# Altium schematic symbol library chipi.SchLib: 4 symbols
Pins are listed as number, name and electrical type; pins without a type are passive.

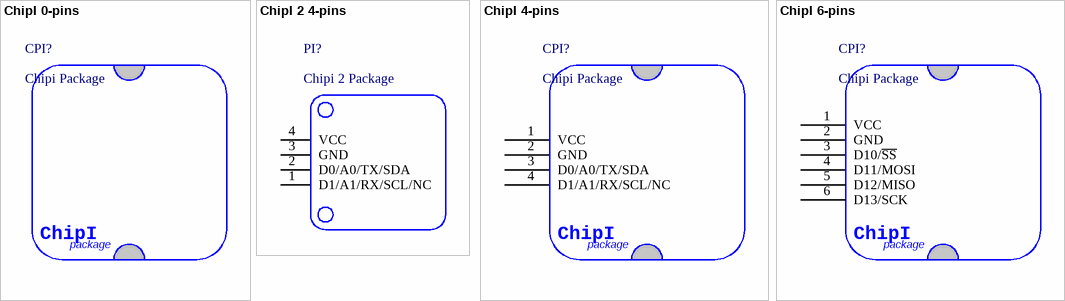
[diagram p0: symbols ChipI 0-pins to ChipI 6-pins]

## ChipI 0-pins
designator CPI?, comment Chipi Package
ChipI package 0-pins
footprint ChipI 1x1 0-PIN
footprint ChipI 1x2 0-pin
footprint ChipI 2x2 0-pin
text: ChipI; package

## ChipI 2 4-pins
designator PI?, comment Chipi 2 Package
ChipI 2 package 4-pins
footprint Chipi V2 1x1 4P WHITE
footprint Chipi V2 1x1 4P RED
pins: 1 D1/A1/RX/SCL/NC, 2 D0/A0/TX/SDA, 3 GND, 4 VCC

## ChipI 4-pins
designator CPI?, comment Chipi Package
ChipI package 4-pins
footprint ChipI 1x1 4-Pin
footprint ChipI 1x2 4-pin
footprint ChipI 2x2 4-pin
footprint ChipI 2x2 4-pin 2
pins: 1 VCC, 2 GND, 3 D0/A0/TX/SDA, 4 D1/A1/RX/SCL/NC
text: ChipI; package

## ChipI 6-pins
designator CPI?, comment Chipi Package
ChipI package 6-pins
footprint ChipI 1x1 6-pin
footprint ChipI 1x2 6-pin
footprint ChipI 2x2 6-pin
footprint ChipI 2x2 6-pin 2
pins: 1 VCC, 2 GND, 3 D10/~{SS}, 4 D11/MOSI, 5 D12/MISO, 6 D13/SCK
text: ChipI; package